# EAGLE library part M24512-DRMN8TP/K (library M24512_EEPROM)
None
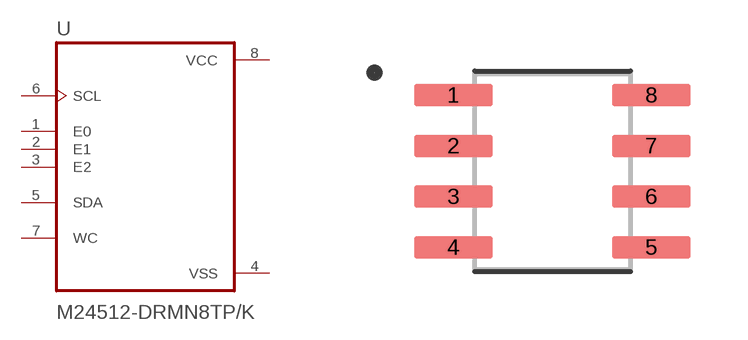
[diagram p0: symbol with the pads of SOIC127P600X175-8N; footprint SOIC127P600X175-8N]

Designator prefix U

## M24512-DRMN8TP/K (Availability: Unavailable; Description: EEPROM Memory IC 512Kb _64K x 8_ I²C 1MHz 450ns 8-SO; MF: STMicroelectronics; MP: M24512-DRMN8TP/K; Package: SOIC-8 STMicroelectronics; Price: None)  [SOIC127P600X175-8N]
1  E0
2  E1
3  E2
4  VSS  pwr
5  SDA
6  SCL  in
7  WC
8  VCC  pwr

## Footprint SOIC127P600X175-8N (pad centres in mm)
smd 1.97 x 0.57: 1 -2.475,1.905; 2 -2.475,0.635; 3 -2.475,-0.635; 4 -2.475,-1.905; 5 2.475,-1.905; 6 2.475,-0.635; 7 2.475,0.635; 8 2.475,1.905